# EAGLE library part FRT5 (library FRT5)
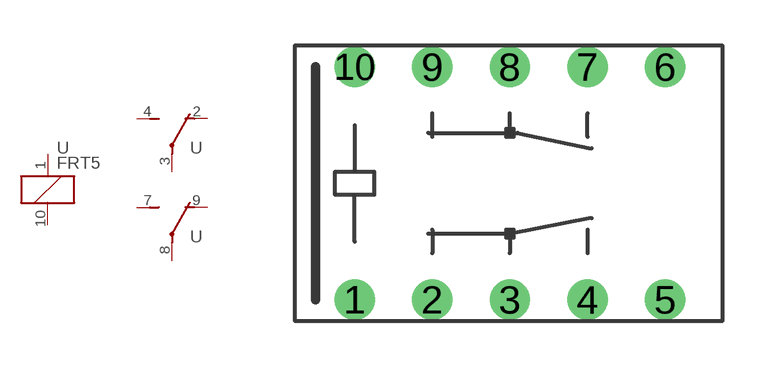
[diagram p0: symbol with the pads of FRT5; footprint FRT5]

Designator prefix -; gates R=K S1=U S2=U

## FRT5  [FRT5]
1  R:1  pas
2  S1:O  pas
3  S1:P  pas
4  S1:S  pas
7  S2:S  pas
8  S2:P  pas
9  S2:O  pas
10  R:2  pas

## Footprint FRT5 (pad centres in mm)
Dual In Line Package
drill 0.813: 1 -2.54,-3.81; 2 0,-3.81; 3 2.54,-3.81; 4 5.08,-3.81; 5 7.62,-3.81; 6 7.62,3.81; 7 5.08,3.81; 8 2.54,3.81; 9 0,3.81; 10 -2.54,3.81